# EAGLE library part 653109131822 (library Wuerth_Elektronik_eiCan_Wire_to_Board_Connectors v1.2)
WR-WTB 1.25mm SMT Male Horizontal Shrouded Header, 9 Pins
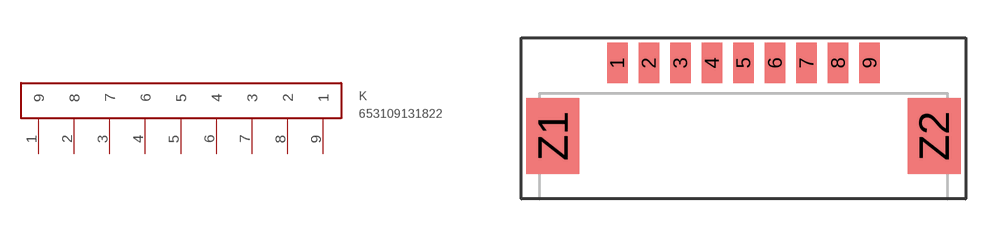
[diagram p66: symbol with the pads of 653109131822; footprint 653109131822]

Designator prefix K

## 653109131822  [653109131822]
1  9
2  8
3  7
4  6
5  5
6  4
7  3
8  2
9  1

## Footprint 653109131822 (pad centres in mm)
WR-WTB 1.25mm SMT Male Horizontal Shrouded Header, 9 Pins
smd 0.81 x 1.6: 1 -0.625,0; 2 0.625,0; 3 1.875,0; 4 3.125,0; 5 4.375,0; 6 5.625,0; 7 6.875,0; 8 8.125,0; 9 9.375,0
smd 2.1 x 3: Z1 -3.175,-2.9; Z2 11.925,-2.9